# EAGLE library part D__7SEGMENT_WF_VQE_21_F_A6 (library ++Bedrahtet)
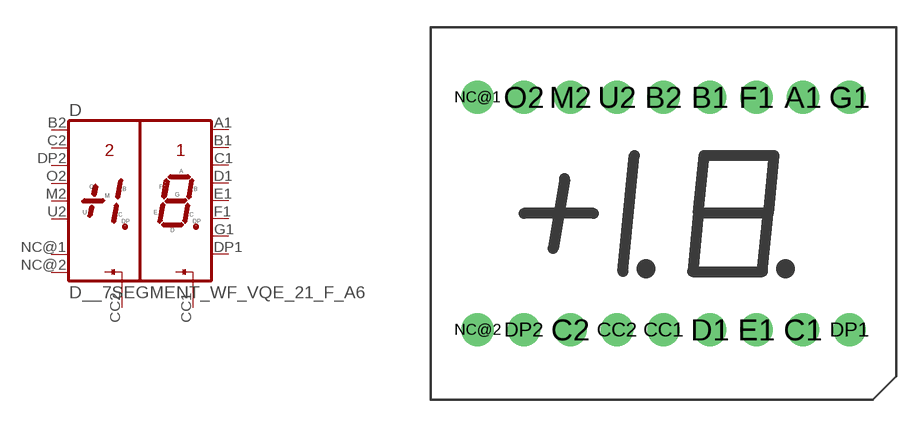
[diagram p22: symbol with the pads of 7-SEG-WWF_VQE_21_A6; footprint 7-SEG-WWF_VQE_21_A6]

Designator prefix D

## D__7SEGMENT_WF_VQE_21_F_A6  [7-SEG-WWF_VQE_21_A6]
A1  A1  pas
B1  B1  pas
B2  B2  pas
C1  C1  pas
C2  C2  pas
CC1  CC1  pas
CC2  CC2  pas
D1  D1  pas
DP1  DP1  pas
DP2  DP2  pas
E1  E1  pas
F1  F1  pas
G1  G1  pas
M2  M2  pas
NC@1  NC  pas
NC@2  NC  pas
O2  O2  pas
U2  U2  pas

## Footprint 7-SEG-WWF_VQE_21_A6 (pad centres in mm)
drill 0.5 pad 1.778: A1 7.62,6.35; B1 2.54,6.35; B2 0,6.35; C1 7.62,-6.35; C2 -5.08,-6.35; CC1 0,-6.35; CC2 -2.54,-6.35; D1 2.54,-6.35; DP1 10.16,-6.35; DP2 -7.62,-6.35; E1 5.08,-6.35; F1 5.08,6.35; G1 10.16,6.35; M2 -5.08,6.35; NC@1 -10.16,6.35; NC@2 -10.16,-6.35; O2 -7.62,6.35; U2 -2.54,6.35